# EAGLE library part MIC5357 (library pixhawk2)
MIC5357 low-noise dual 500mA LDO
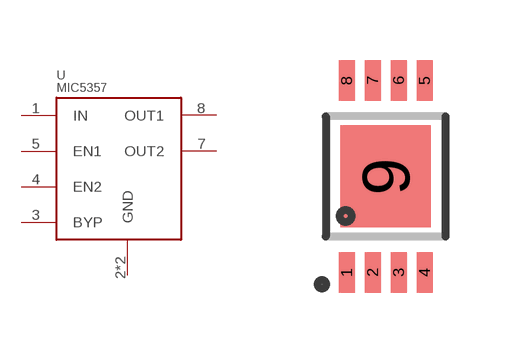
[diagram p78: symbol with the pads of MSOP-8-EPAD; footprint MSOP-8-EPAD]

Designator prefix U

## MIC5357  [MSOP-8-EPAD]
1  IN
2  GND
3  BYP
4  EN2
5  EN1
7  OUT2
8  OUT1
9  GND

## Footprint MSOP-8-EPAD (pad centres in mm)
MSOP-8 ePad (Micrel)
smd 0.4 x 1.02: 1 -0.975,-2.4; 2 -0.325,-2.4; 3 0.325,-2.4; 4 0.975,-2.4; 5 0.975,2.4; 6 0.325,2.4; 7 -0.325,2.4; 8 -0.975,2.4
smd 2.26 x 2.55: 9 0,0